# EAGLE library part PCF8575CRGER (library PCF8575CRGER)
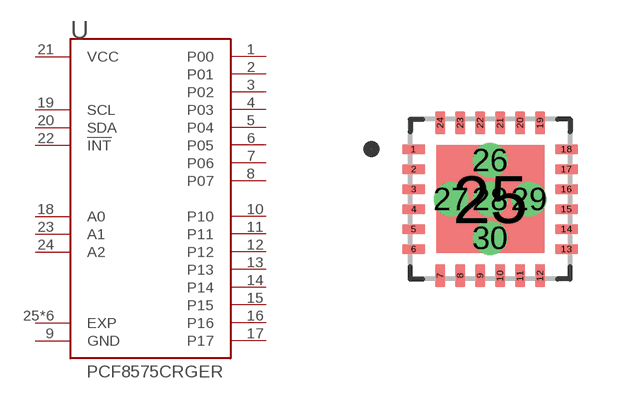
[diagram p0: symbol with the pads of QFN50P400X400X100-25N; footprint QFN50P400X400X100-25N]

Designator prefix U

## PCF8575CRGER  [QFN50P400X400X100-25N]
1  P00
2  P01
3  P02
4  P03
5  P04
6  P05
7  P06
8  P07
9  GND  pwr
10  P10
11  P11
12  P12
13  P13
14  P14
15  P15
16  P16
17  P17
18  A0  in
19  SCL  in
20  SDA
21  VCC  pwr
22  !INT!  out
23  A1  in
24  A2  in
25  EXP  pwr
26  EXP  pwr
27  EXP  pwr
28  EXP  pwr
29  EXP  pwr
30  EXP  pwr

## Footprint QFN50P400X400X100-25N (pad centres in mm)
smd 0.58 x 0.24: 1 -1.913,1.25; 2 -1.913,0.75; 3 -1.913,0.25; 4 -1.913,-0.25; 5 -1.913,-0.75; 6 -1.913,-1.25; 13 1.913,-1.25; 14 1.913,-0.75; 15 1.913,-0.25; 16 1.913,0.25; 17 1.913,0.75; 18 1.913,1.25
smd 0.24 x 0.58: 7 -1.25,-1.913; 8 -0.75,-1.913; 9 -0.25,-1.913; 10 0.25,-1.913; 11 0.75,-1.913; 12 1.25,-1.913; 19 1.25,1.913; 20 0.75,1.913; 21 0.25,1.913; 22 -0.25,1.913; 23 -0.75,1.913; 24 -1.25,1.913
smd 2.7 x 2.7: 25 0,0
drill 0.35 pad 0.61: 26 0,0.973; 27 -0.973,0; 28 0,0; 29 0.973,0; 30 0,-0.973